# Altium footprint library PcbLib.PcbLib: 19 footprints (part 1 of 2)
Each footprint in its own frame and in the unit in brackets; x right, y up, seen from the top. Pads: shape width x height; smd on the part's side, far side on the other; paste and mask are expansions set on the pad; w line width, h text height; cw(c..) or ccw(c..) is an arc to the next point about the centre after c.
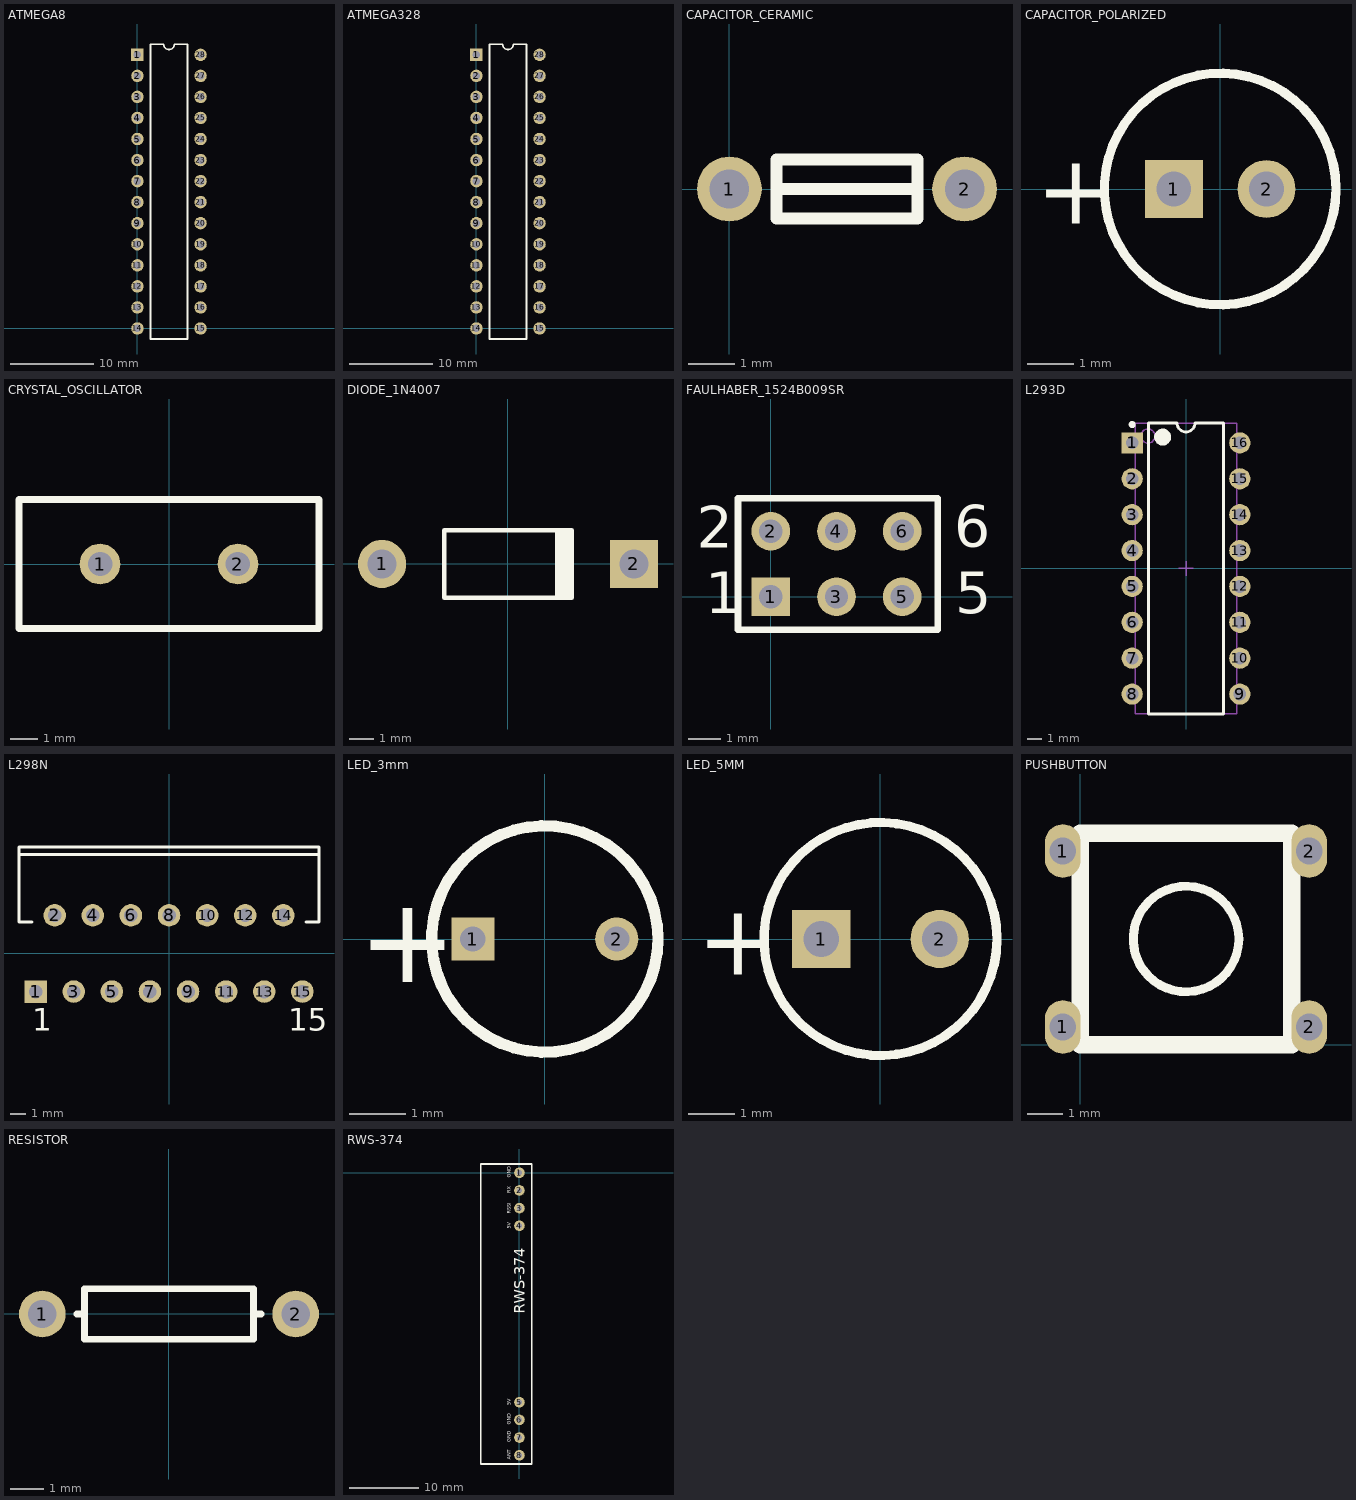
[diagram p0: the footprints below, top view; thin cyan lines are the x and y axes]

## ATMEGA8 [mm]
pads (28):
  rect 1.5x1.5 hole 0.9: 1(0,33.02)
  round 1.5 hole 0.9: 2(0,30.48) 3(0,27.94) 4(0,25.4) 5(0,22.86) 6(0,20.32) 7(0,17.78) 8(0,15.24) 9(0,12.7) 10(0,10.16) 11(0,7.62) 12(0,5.08) 13(0,2.54) 14(0,0) 15(7.62,0) 16(7.62,2.54) 17(7.62,5.08) 18(7.62,7.62) 19(7.62,10.16) 20(7.62,12.7) 21(7.62,15.24) 22(7.62,17.78) 23(7.62,20.32) 24(7.62,22.86) 25(7.62,25.4) 26(7.62,27.94) 27(7.62,30.48) 28(7.62,33.02)
Top Overlay:
  lines w0.2: 1.585,-1.27 1.585,34.29 3.175,34.29 ccw(c3.81,34.29) 4.445,34.29 6.035,34.29 6.035,-1.27 1.585,-1.27
3D body: height 3, standoff 0.1, extent -0.852,-1.37 8.472,34.39

## ATMEGA328 [mm]
pads (28):
  rect 1.5x1.5 hole 0.9: 1(0,33.02)
  round 1.5 hole 0.9: 2(0,30.48) 3(0,27.94) 4(0,25.4) 5(0,22.86) 6(0,20.32) 7(0,17.78) 8(0,15.24) 9(0,12.7) 10(0,10.16) 11(0,7.62) 12(0,5.08) 13(0,2.54) 14(0,0) 15(7.62,0) 16(7.62,2.54) 17(7.62,5.08) 18(7.62,7.62) 19(7.62,10.16) 20(7.62,12.7) 21(7.62,15.24) 22(7.62,17.78) 23(7.62,20.32) 24(7.62,22.86) 25(7.62,25.4) 26(7.62,27.94) 27(7.62,30.48) 28(7.62,33.02)
Top Overlay:
  lines w0.2: 1.585,-1.27 6.035,-1.27 6.035,34.29 4.445,34.29 cw(c3.81,34.29) 3.175,34.29 1.585,34.29 1.585,-1.27
3D body: height 3, standoff 0.1, extent -0.852,-1.37 8.472,34.39

## CAPACITOR_CERAMIC [mm] "C_NANO com furos maiores"
pads (2):
  round 1.4 hole 0.85: 1(0,0) 2(5.08,0)
Top Overlay:
  lines w0.254: 1.016,0 3.302,0 ; 1.778,0 4.064,0 ; 4.064,0 4.064,-0.635 1.016,-0.635 1.016,0.635 4.064,0.635 4.064,0

## CAPACITOR_POLARIZED [mm] "Capacitor, Electrolytic, Radial; Body 5 x 6.8 mm (Dia.xH typ); Pin Spacing 2 mm (typ)"
pads (2):
  rect 1.25x1.25 hole 0.75: 1(-1,0)
  round 1.25 hole 0.75: 2(1,0)
Top Overlay:
  circle w0.2: c0,0 r2.5
  text "+" at -3.975,-0.75 h1.5
3D body: height 7, standoff 0.1, extent -2.512,-2.512 2.512,2.512

## CRYSTAL_OSCILLATOR [mm]
pads (2):
  round 1.5 hole 0.9: 1(-2.54,0) 2(2.54,0)
Top Overlay:
  lines w0.25: -5.525,-2.375 5.525,-2.375 5.525,2.375 -5.525,2.375 -5.525,-2.375

## DIODE_1N4007 [mm]
pads (2):
  round 2 hole 1.2: 1(-5.213,-0.003)
  rect 2x2 hole 1.2: 2(5.247,-0.003)
Top Overlay:
  rectangle: 1.967,-1.406 2.767,1.394
  lines w0.2: 2.667,-1.403 -2.633,-1.403 -2.633,1.397 2.667,1.397

## FAULHABER_1524B009SR [mm] "Header 2x3 (2mm pitch)"
pads (6):
  rect 1.18x1.18 hole 0.71: 1(0,0)
  round 1.18 hole 0.71: 2(0,2) 3(2,0) 4(2,2) 5(4,0) 6(4,2)
Top Overlay:
  lines w0.2: -1,-1 0.905,-1 5.08,-1 5.08,3 1.445,3 -1,3 -1,-1
  text "5" at 5.62,-0.5 h1.27
  text "6" at 5.588,1.524 h1.27
  text "2" at -2.25,1.5 h1.27
  text "1" at -2,-0.5 h1.27

## L293D [mm]
pads (16):
  rect 1.5x1.5 hole 0.9: 1(-3.81,8.89)
  round 1.5 hole 0.9: 2(-3.81,6.35) 3(-3.81,3.81) 4(-3.81,1.27) 5(-3.81,-1.27) 6(-3.81,-3.81) 7(-3.81,-6.35) 8(-3.81,-8.89) 9(3.81,-8.89) 10(3.81,-6.35) 11(3.81,-3.81) 12(3.81,-1.27) 13(3.81,1.27) 14(3.81,3.81) 15(3.81,6.35) 16(3.81,8.89)
Top Overlay:
  circle w0.25: c-3.81,10.19 r0.125
  circle w0.6: c-1.65,9.3 r0.3
  lines w0.2: -2.65,-10.3 -2.65,10.3 -0.635,10.3 ccw(c0,10.3) 0.635,10.3 2.65,10.3 2.65,-10.3 -2.65,-10.3
Mechanical 13:
  circle w0.1: c-2.7,9.375 r0.5
  lines w0.1: -3.6,-10.275 -3.6,10.275 3.6,10.275 3.6,-10.275 -3.6,-10.275
Mechanical 15:
  lines w0.1: -0.5,0 0.5,0 ; 0,-0.5 0,0.5
3D body: height 5.08, standoff 0, extent -3.6,-10.275 3.6,10.275

## L298N [mm] "TO, Thru-Hole, Vertical, Heatsink Mounted; 15 Bent Staggered Leads; Pitch 1.27 mm"
height 21
pads (15):
  rect 1.5x1.5 hole 0.9: 1(-8.89,-2.54)
  round 1.5 hole 0.9: 2(-7.62,2.54) 3(-6.35,-2.54) 4(-5.08,2.54) 5(-3.81,-2.54) 6(-2.54,2.54) 7(-1.27,-2.54) 8(0,2.54) 9(1.27,-2.54) 10(2.54,2.54) 11(3.81,-2.54) 12(5.08,2.54) 13(6.35,-2.54) 14(7.62,2.54) 15(8.89,-2.54)
Top Overlay:
  lines w0.2: -10,6.59 10,6.59 ; -9.144,2.09 -10,2.09 -10,7.09 10,7.09 10,2.09 9.144,2.09
  text "1" at -9.12,-5.165 h1.5
  text "15" at 7.94,-5.165 h1.5

## LED_3mm [mil] "Capacitor, Electrolytic, Radial; Body 3 x 4.5 mm (Dia.xH typ); Pin Spacing 2.54 mm (typ)"
pads (2):
  rect 30x30 hole 17.72: 1(-50,0)
  round 30 hole 17.72: 2(50,0)
Top Overlay:
  circle w7.87: c0,0 r78.74
  text "+" at -130,-30 h60
3D body: height 177.17, standoff 3.94, extent -79.1,-79.1 79.1,79.1
3D body: height 0, standoff 0, extent -79.1,-79.1 79.1,79.1

## LED_5MM [mm] "Capacitor, Electrolytic, Radial; Body 5 x 6.8 mm (Dia.xH typ); Pin Spacing 2 mm (typ)"
pads (2):
  rect 1.25x1.25 hole 0.762: 1(-1.27,0)
  round 1.25 hole 0.762: 2(1.27,0)
Top Overlay:
  circle w0.2: c0,0 r2.5
  text "+" at -3.937,-0.762 h1.52
3D body: height 8.59, standoff 0.1, extent -2.512,-2.512 2.512,2.512

## LM3940 [mm]

## LM7805 [mm]

## PUSHBUTTON [mil]
pads (4):
  oval 40x60 hole 30: 1(-19.68,19.68) 1(-19.68,216.54) 2(255.91,19.68) 2(255.91,216.54)
Top Overlay:
  circle w10: c118.11,118.11 r59.06
  lines w19.68: -19.68,19.68 0,19.68 ; -19.68,216.54 0,216.54 ; 236.22,19.68 255.91,19.68 ; 236.22,216.54 255.91,216.54 ; 0,0 236.22,0 236.22,236.22 0,236.22 0,0

## RESISTOR [mm] "Axial Device, Thru-Hole; 2 Leads; 0.3 in Pin Spacing"
height 1.524
pads (2):
  round 1.4 hole 0.85: 1(-3.81,0) 2(3.81,0)
Top Overlay:
  lines w0.2: -2.769,0 -2.54,0 ; 2.769,0 2.54,0 ; 2.54,0 2.54,-0.762 -2.54,-0.762 -2.54,0.762 2.54,0.762 2.54,0

## RWS-374 [mil] "Receptor RF (RX)"
height 417.32
pads (8):
  round 60 hole 30: 1(0,0) 2(0,-100) 3(0,-200) 4(0,-300) 5(0,-1300) 6(0,-1400) 7(0,-1500) 8(0,-1600)
Top Overlay:
  lines w10: -220,-1650 70,-1650 70,50 -220,50 -220,-1650
  text "5V" at -50,-1316.66 h20
  text "ANT" at -50,-1626.66 h20
  text "GND" at -50,-1526.66 h20
  text "GND" at -50,-1426.66 h20
  text "5V" at -50,-316.66 h20
  text "RSSI" at -50,-233.32 h20
  text "RX" at -50,-116.66 h20
  text "GND" at -50,-26.66 h20
  text "RWS-374" at 29.99,-799.94 h60